# EAGLE library part BEL-08B0-1X1T-36-F (library Mechanical)
BelFuse MagJack RJ45 connector with integral magnetics and LEDs
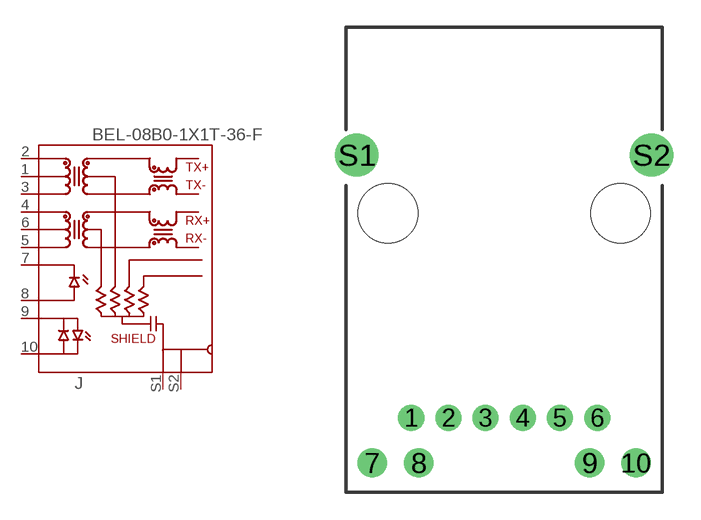
[diagram p78: symbol with the pads of BEL-08B0-1X1T-36-F; footprint BEL-08B0-1X1T-36-F]

Designator prefix J

## BEL-08B0-1X1T-36-F  [BEL-08B0-1X1T-36-F]
1  TDCT  pas
2  TD+  pas
3  TD-  pas
4  RD+  pas
5  RD-  pas
6  RDCT  pas
7  LD1C  pas
8  LD1A  pas
9  LD2-OAGC  pas
10  LD2-GAOC  pas
S1  S1  pas
S2  S2  pas

## Footprint BEL-08B0-1X1T-36-F (pad centres in mm)
BelFuse MagJack 08B0-1X1T-35-F
drill 0.914: 1 -5.08,0; 2 -3.048,0; 3 -1.016,0; 4 1.016,0; 5 3.048,0; 6 5.08,0
drill 1.067: 7 -7.214,-2.464; 8 -4.674,-2.464; 9 4.674,-2.464; 10 7.214,-2.464
drill 1.575: S1 -8.052,14.351; S2 8.052,14.351
hole 3.251 at -6.35,11.176
hole 3.251 at 6.35,11.176